# Altium footprint library ESCLib1.PcbLib: 35 footprints (part 3 of 3)
Each footprint in its own frame and in the unit in brackets; x right, y up, seen from the top. Pads: shape width x height; smd on the part's side, far side on the other; paste and mask are expansions set on the pad; w line width, h text height; cw(c..) or ccw(c..) is an arc to the next point about the centre after c.
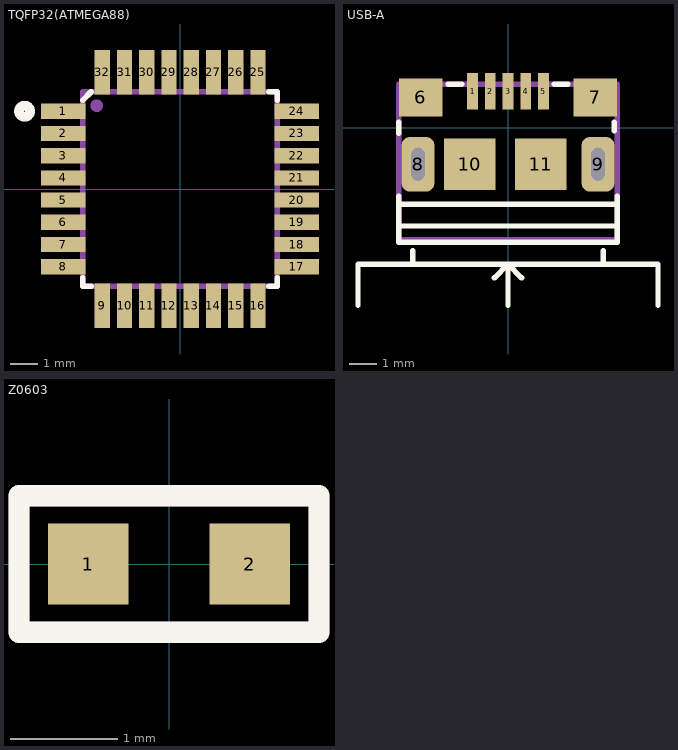
[diagram p2: the footprints below, top view; thin cyan lines are the x and y axes]

## TQFP32(ATMEGA88) [mm]
pads (32):
  rect 1.6x0.55 smd mask+0.06: 1(-4.2,2.8) 2(-4.2,2) 3(-4.2,1.2) 4(-4.2,0.4) 5(-4.2,-0.4) 6(-4.2,-1.2) 7(-4.2,-2) 8(-4.2,-2.8) 17(4.2,-2.8) 18(4.2,-2) 19(4.2,-1.2) 20(4.2,-0.4) 21(4.2,0.4) 22(4.2,1.2) 23(4.2,2) 24(4.2,2.8)
  rect 0.55x1.6 smd mask+0.06: 9(-2.8,-4.2) 10(-2,-4.2) 11(-1.2,-4.2) 12(-0.4,-4.2) 13(0.4,-4.2) 14(1.2,-4.2) 15(2,-4.2) 16(2.8,-4.2) 25(2.8,4.2) 26(2,4.2) 27(1.2,4.2) 28(0.4,4.2) 29(-0.4,4.2) 30(-1.2,4.2) 31(-2,4.2) 32(-2.8,4.2)
Top Overlay:
  circle w0.35: c-5.6,2.8 r0.2
  lines w0.2: -3.5,-3.2 -3.5,-3.5 -3.2,-3.5 ; -3.5,3.2 -3.2,3.5 ; 3.2,-3.5 3.5,-3.5 3.5,-3.2 ; 3.2,3.5 3.5,3.5 3.5,3.2
Assembly Notes:
  circle w0.254: c-3,3 r0.1
  lines w0.2: -3.5,-3.5 -3.5,3.5 3.5,3.5 3.5,-3.5 -3.5,-3.5
  text "'.Designator'" at -3.1,-0.467 h1
3D body "TQFP32.STEP": height 1.18, standoff -0.02, extent -4.5,-4.5 4.5,4.5

## USB-A [mm]
pads (11):
  rect 0.4x1.35 smd mask+0.05: 1(-1.3,1.338) 2(-0.65,1.338) 3(0,1.338) 4(0.65,1.338) 5(1.3,1.338)
  rect 1.6x1.4 smd: 6(-3.2,1.112) 7(3.2,1.112)
  rrect50% 1.2x2 hole 0.5 slot 1.2 at 90 deg: 8(-3.3,-1.338) 9(3.3,-1.338)
  rect 1.9x1.9 smd: 10(-1.4,-1.338) 11(1.2,-1.338)
Top Overlay:
  lines w0.2: -5.5,-6.5 -5.5,-5 5.3,-5 5.5,-5 5.5,-6.5 ; -4.003,-2.503 -4.003,-4.197 -4,-4.2 4,-4.2 4,-3.6 ; -4,-3.6 4,-3.6 ; -4,-2.8 4,-2.8 ; -4,-0.2 -4,0.2 ; -3.5,-5 -3.5,-4.5 ; -2.2,1.6 -1.7,1.6 ; -0.5,-5.5 0,-5 ; 0,-6.5 0,-5 ; 0.5,-5.5 0,-5 ; 1.7,1.6 2.2,1.6 ; 3.5,-5 3.5,-4.5 ; 3.9,-0.1 3.9,0.2 ; 4,-2.5 4,-3.6
Assembly Notes:
  lines w0.2: -4,-4.1 4,-4.1 4,1.6 -4,1.6 -4,-4.1
  text "'.Designator'" at -1.246,-1.546 h0.9
3D body "MICRO_USB_10118193-0001LF.stp": height 2.88, standoff -0.92, extent -3.928,-4.2 3.928,1.584

## Z0603 [mm]
pads (2):
  rect 0.75x0.75 smd: 1(-0.75,0) 2(0.75,0)
Top Overlay:
  lines w0.2: -1.397,-0.635 1.397,-0.635 1.397,0.635 -1.397,0.635 -1.397,-0.635
Assembly Notes:
  lines w0.2: -1.397,-0.635 1.397,-0.635 1.397,0.635 -1.397,0.635 -1.397,-0.635
  text "'.Designator'" at -0.515,-0.221 h0.5
3D body "Resistor_0603.step": height 0.46, standoff 0.01, extent -0.8,-0.4 0.8,0.4